# Altium footprint library Polarizer.PcbLib: 6 footprints
Each footprint in its own frame and in the unit in brackets; x right, y up, seen from the top. Pads: shape width x height; smd on the part's side, far side on the other; paste and mask are expansions set on the pad; w line width, h text height; cw(c..) or ccw(c..) is an arc to the next point about the centre after c.
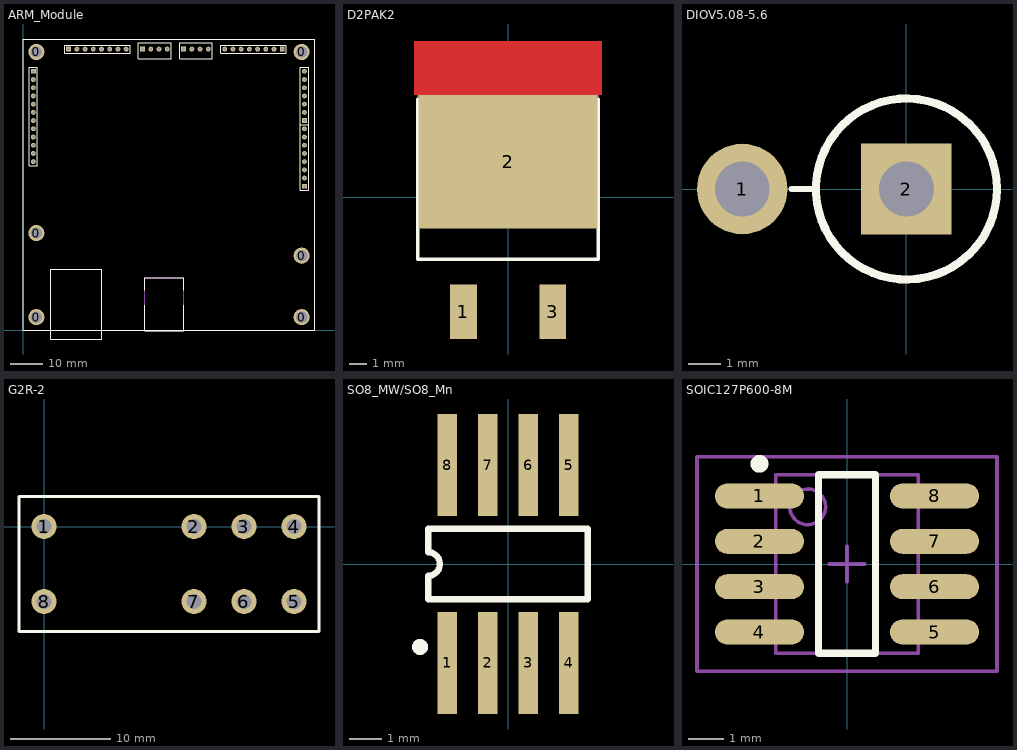
[diagram p0: the footprints below, top view; thin cyan lines are the x and y axes]

## ARM_Module [mm]
pads (57):
  round 5 hole 3.5: 0(4,4) 0(4,30) 0(4,86) 0(86,4) 0(86,23) 0(86,86)
  rect 1.5x1.5 hole 0.9: P1.1(13.97,86.868) P2.1(86.868,64.77) P3.1(80.01,86.868) P4.1(3.048,80.01) P5.1(86.868,44.45) P7.1(36.83,86.868) P8.1(49.53,86.868)
  round 1.5 hole 0.9: P1.2(16.51,86.868) P1.3(19.05,86.868) P1.4(21.59,86.868) P1.5(24.13,86.868) P1.6(26.67,86.868) P1.7(29.21,86.868) P1.8(31.75,86.868) P2.2(86.868,67.31) P2.3(86.868,69.85) P2.4(86.868,72.39) P2.5(86.868,74.93) P2.6(86.868,77.47) P2.7(86.868,80.01) P3.2(77.47,86.868) P3.3(74.93,86.868) P3.4(72.39,86.868) P3.5(69.85,86.868) P3.6(67.31,86.868) P3.7(64.77,86.868) P3.8(62.23,86.868) P4.2(3.048,77.47) P4.3(3.048,74.93) P4.4(3.048,72.39) P4.5(3.048,69.85) P4.6(3.048,67.31) P4.7(3.048,64.77) P4.8(3.048,62.23) P4.9(3.048,59.69) P4.10(3.048,57.15) P4.11(3.048,54.61) P4.12(3.048,52.07) P5.2(86.868,46.99) P5.3(86.868,49.53) P5.4(86.868,52.07) P5.5(86.868,54.61) P5.6(86.868,57.15) P5.7(86.868,59.69) P5.8(86.868,62.23) P7.2(39.37,86.868) P7.3(41.91,86.868) P7.4(44.45,86.868) P8.2(52.07,86.868) P8.3(54.61,86.868) P8.4(57.15,86.868)
Top Overlay:
  lines w0.2: 37.463,7.737 37.463,-0.243 49.503,-0.243 49.503,7.737 ; 37.463,12.337 37.463,16.157 49.503,16.157 49.503,12.337 ; 85.598,63.5 85.598,43.18 88.138,43.18 88.138,63.5 ; 85.598,63.5 88.138,63.5 ; 85.598,63.5 88.138,63.5 ; 85.598,63.5 85.598,81.28 88.138,81.28 88.138,63.5 ; 1.778,50.8 4.318,50.8 4.318,79.375 4.318,81.28 1.778,81.28 1.778,50.8 ; 12.7,85.598 12.7,88.138 33.02,88.138 33.02,85.598 12.7,85.598 ; 35.56,83.82 45.72,83.82 45.72,88.9 35.56,88.9 35.56,83.82 ; 48.26,83.82 58.42,83.82 58.42,88.9 48.26,88.9 48.26,83.82 ; 60.96,85.598 81.28,85.598 81.28,88.138 60.96,88.138 60.96,85.598
  lines w0.254: 8.526,-2.763 9.288,-2.763 ; 0,0 0,90 90,90 90,0 0,0 ; 8.399,-2.763 24.147,-2.763 24.147,18.7 24.147,18.827 8.399,18.827 8.399,-2.763
Mechanical 13:
  lines w0.1: 37.463,-0.243 49.503,-0.243 49.503,16.157 37.463,16.157 37.463,-0.243
3D body: height 11.1, standoff 0, extent 37.463,-0.243 49.503,16.157
3D body: height 14, standoff 0, extent 8.382,-2.794 24.13,18.796

## D2PAK2 [mil] "http://www.nxp.com/acrobat_download/packages/SOT404.pdf"
pads (3):
  rect 60x122 smd paste-1000 mask+4: 1(-100,-256) 3(100,-256)
  rect 400x300 smd paste-1000 mask-1000: 2(0,80)
Top Layer:
  region: 210,230 210,350 -210,350 -210,230
Top Overlay:
  lines w8: -202,220 -202,-138 202,-138 202,220
Top Paste:
  region: -123.5,-259.5 -123.5,-314.5 -76.5,-314.5 -76.5,-259.5
  region: -123.5,-197.5 -123.5,-252.5 -76.5,-252.5 -76.5,-197.5
  region: 76.5,-197.5 76.5,-252.5 123.5,-252.5 123.5,-197.5
  region: 76.5,-259.5 76.5,-314.5 123.5,-314.5 123.5,-259.5
  region: -79,49 -143,49 -143,-11 -79,-11
  region: -5,49 -69,49 -69,-11 -5,-11
  region: 69,49 5,49 5,-11 69,-11
  region: 143,49 79,49 79,-11 143,-11
  region: 143,170 79,170 79,110 143,110
  region: 69,170 5,170 5,110 69,110
  region: -5,170 -69,170 -69,110 -5,110
  region: -79,170 -143,170 -143,110 -79,110
  region: 205,231 205,315 145,315 145,231
  region: -145,231 -145,315 -205,315 -205,231
  region: -75,231 -75,315 -135,315 -135,231
  region: -5,231 -5,315 -65,315 -65,231
  region: 65,231 65,315 5,315 5,231
  region: 135,231 135,315 75,315 75,231
Top Solder:
  region: 205,-75 205,225 215,225 215,355 -215,355 -215,225 -205,225 -205,-75
Mechanical 1:
  lines w4: -202,-138 202,-138 202,240 -202,240 -202,-138
Mechanical 15:
  lines w4: -20,0 20,0 ; 0,-20 0,20

## DIOV5.08-5.6 [mm] "Diode, Axial; Vertical; Body 9.5 x 5.6 mm (LxDia. max), Lead Dia. 1.32 mm (max)"
height 12
pads (2):
  round 2.8 hole 1.7: 1(-5.08,0)
  rect 2.8x2.8 hole 1.7: 2(0,0)
Top Overlay:
  circle w0.254: c0,0 r2.8
  lines w0.2: -3.556,0 -2.782,0

## G2R-2 [mm] "Omron DPDT Relay"
height 25
pads (8):
  round 2.5 hole 1.5: 1(0,0) 2(15,0) 3(20,0) 4(25,0) 5(25,-7.5) 6(20,-7.5) 7(15,-7.5) 8(0,-7.5)
Top Overlay:
  lines w0.254: -2.5,-10.5 -2.5,3 27.5,3 27.5,-10.5 -2.5,-10.5

## SO8_MW/SO8_Mn [mm] "Small Outline; 8 Leads; Body Width 5.2 mm; Pitch 1.27 mm"
pads (8):
  rect 0.6x3.2 smd: 1(-1.905,-3.1) 2(-0.635,-3.1) 3(0.635,-3.1) 4(1.905,-3.1) 5(1.905,3.1) 6(0.635,3.1) 7(-0.635,3.1) 8(-1.905,3.1)
Top Overlay:
  circle w0.25: c-2.755,-2.6 r0.125
  lines w0.2: -2.5,-1.1 -2.5,-0.367 ccw(c-2.5,0) -2.5,0.367 -2.5,1.1 2.5,1.1 2.5,-1.1 -2.5,-1.1

## SOIC127P600-8M [mm] "SOIC, 8-Leads, Body 4.9x3.9mm, Pitch 1.27mm, IPC Low Density"
height 1.75
pads (8):
  oval 2.5x0.7 smd: 1(-2.45,1.905) 2(-2.45,0.635) 3(-2.45,-0.635) 4(-2.45,-1.905) 5(2.45,-1.905) 6(2.45,-0.635) 7(2.45,0.635) 8(2.45,1.905)
Top Overlay:
  circle w0.25: c-2.45,2.805 r0.125
  lines w0.2: -0.8,-2.5 -0.8,2.5 0.8,2.5 0.8,-2.5 -0.8,-2.5
Mechanical 13:
  circle w0.1: c-1.1,1.6 r0.5
  lines w0.1: -2,-2.5 -2,2.5 2,2.5 2,-2.5 -2,-2.5
Mechanical 15:
  lines w0.1: -0.5,0 0.5,0 ; 0,-0.5 0,0.5 ; -4.2,-3 -4.2,3 4.2,3 4.2,-3 -4.2,-3
3D body: height 1.75, standoff 0, extent -2,-2.5 2,2.5